# EAGLE library part MAX9744 (library 0_Library-Rev2)
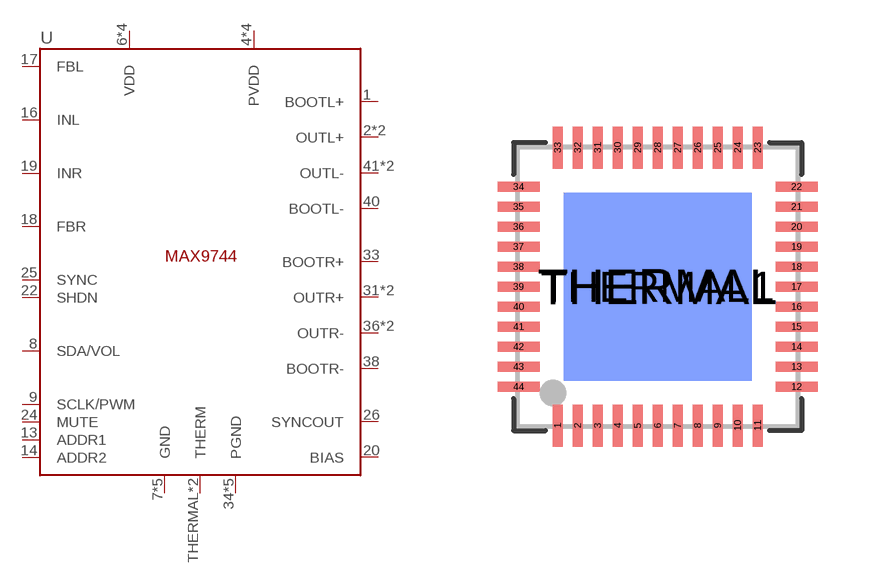
[diagram p2: symbol with the pads of TQFN44_7MM; footprint TQFN44_7MM]

Designator prefix U

## MAX9744  [TQFN44_7MM]
1  BOOTL+
2  OUTL+  out
3  OUTL+  out
4  PVDD  pwr
5  PVDD  pwr
6  VDD  pwr
7  GND  pwr
8  SDA/VOL
9  SCLK/PWM
10  VDD  pwr
11  GND  pwr
12  GND  pwr
13  ADDR1  in
14  ADDR2  in
15  GND  pwr
16  INL  in
17  FBL
18  FBR
19  INR  in
20  BIAS
21  VDD  pwr
22  SHDN  in
24  MUTE  in
25  SYNC  in
26  SYNCOUT  out
27  GND  pwr
28  VDD  pwr
29  PVDD  pwr
30  PVDD  pwr
31  OUTR+  out
32  OUTR+  out
33  BOOTR+
34  PGND  pwr
35  PGND  pwr
36  OUTR-  out
37  OUTR-  out
38  BOOTR-
39  PGND  pwr
40  BOOTL-
41  OUTL-  out
42  OUTL-  out
43  PGND  pwr
44  PGND  pwr
THERMAL  THERM  pwr
THERMAL1  THERM  pwr

## Footprint TQFN44_7MM (pad centres in mm)
Source: http://datasheets.maxim-ic.com/en/ds/MAX9744.pdf
smd 0.25 x 1.05: 1 -2.5,-3.475; 2 -2,-3.475; 3 -1.5,-3.475; 4 -1,-3.475; 5 -0.5,-3.475; 6 0,-3.475; 7 0.5,-3.475; 8 1,-3.475; 9 1.5,-3.475; 10 2,-3.475; 11 2.5,-3.475; 23 2.5,3.475; 24 2,3.475; 25 1.5,3.475; 26 1,3.475; 27 0.5,3.475; 28 0,3.475; 29 -0.5,3.475; 30 -1,3.475; 31 -1.5,3.475; 32 -2,3.475; 33 -2.5,3.475
smd 1.05 x 0.25: 12 3.475,-2.5; 13 3.475,-2; 14 3.475,-1.5; 15 3.475,-1; 16 3.475,-0.5; 17 3.475,0; 18 3.475,0.5; 19 3.475,1; 20 3.475,1.5; 21 3.475,2; 22 3.475,2.5; 34 -3.475,2.5; 35 -3.475,2; 36 -3.475,1.5; 37 -3.475,1; 38 -3.475,0.5; 39 -3.475,0; 40 -3.475,-0.5; 41 -3.475,-1; 42 -3.475,-1.5; 43 -3.475,-2; 44 -3.475,-2.5
smd 4.7 x 4.7: THERMAL 0,0
smd 4.7 x 4.7 bottom: THERMAL1 0,0